# Altium footprint library DS1022-2x8RF11.PcbLib: 1 footprints
Each footprint in its own frame and in the unit in brackets; x right, y up, seen from the top. Pads: shape width x height; smd on the part's side, far side on the other; paste and mask are expansions set on the pad; w line width, h text height; cw(c..) or ccw(c..) is an arc to the next point about the centre after c.
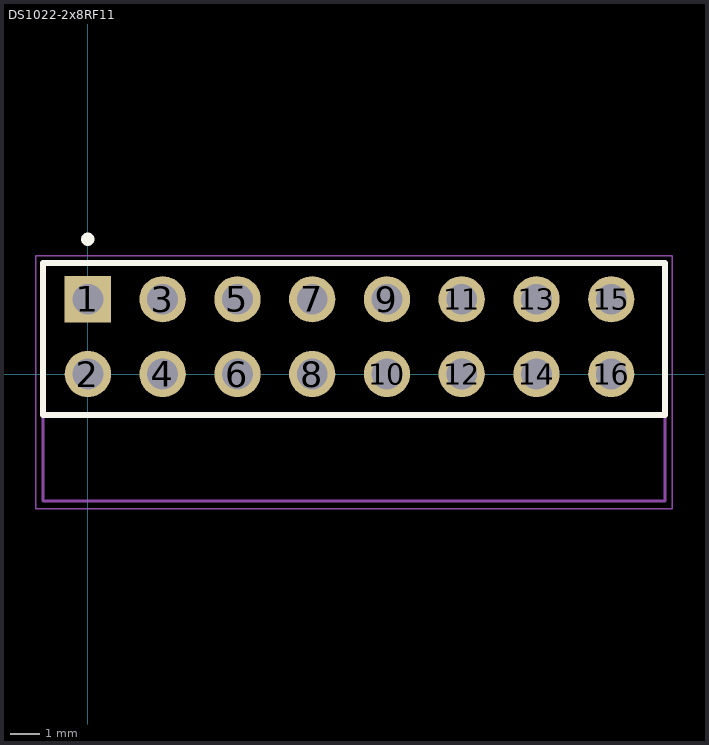
[diagram p0: the footprint, top view; thin cyan lines are the x and y axes]

## DS1022-2x8RF11 [mm]
pads (16):
  rect 1.575x1.575 hole 1.05: 1(0,2.54)
  round 1.575 hole 1.05: 2(0,0) 3(2.54,2.54) 4(2.54,0) 5(5.08,2.54) 6(5.08,0) 7(7.62,2.54) 8(7.62,0) 9(10.16,2.54) 10(10.16,0) 11(12.7,2.54) 12(12.7,0) 13(15.24,2.54) 14(15.24,0) 15(17.78,2.54) 16(17.78,0)
Top Overlay:
  lines w0.2: -1.524,-1.397 19.6,-1.397 19.6,3.77 -1.52,3.77 -1.52,-1.397
  lines w0.457: 0,4.572 0,4.572
Mechanical 13:
  lines w0.1: -1.52,-4.318 19.6,-4.318 19.6,3.77 -1.52,3.77 -1.52,-4.318
Mechanical 15:
  lines w0.05: -1.77,-4.572 -1.77,4.02 19.85,4.02 19.85,-4.572 -1.77,-4.572
3D body "PLD-8R1.step": height 5.08, standoff -3, extent 8.89,-10.203 19.05,2.837
3D body "PLD-8R1.step": height 5.08, standoff -3, extent -1.27,-10.203 8.89,2.837